# Altium integrated library Analog Devices Data Converters Digital-to-Analog Converters.IntLib: 2231 symbols (part 62 of 181)
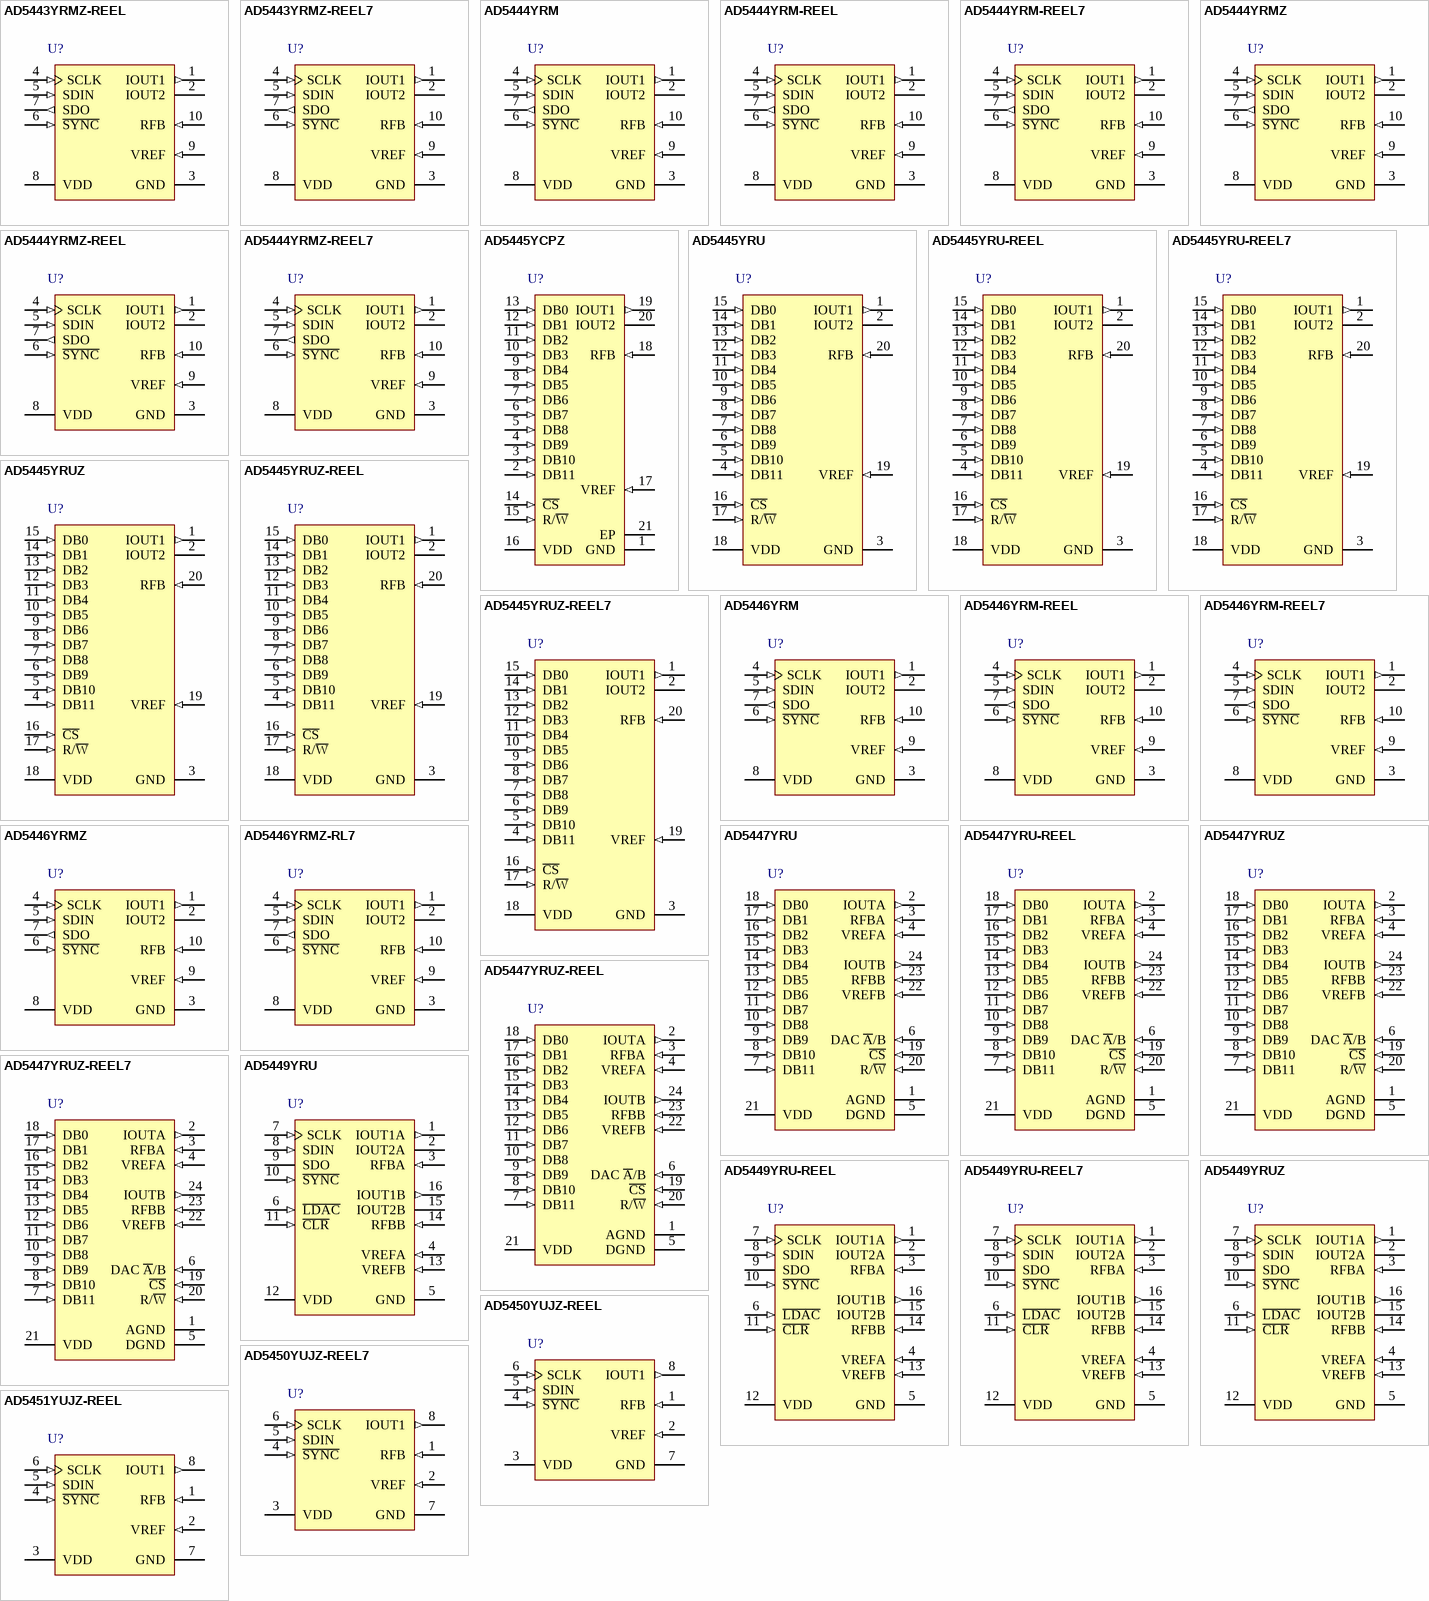
[diagram p175: symbols AD5443YRMZ-REEL to AD5451YUJZ-REEL]

## AD5446YRM
designator U?
Single 14-Bit High Bandwidth Multiplying Digital-to-Analog Converter, -40 to +125 degC, RM-10, Tube; Generic Part Number: AD5446; Manufacturer: Analog Devices; PartNumber: AD5446YRM; # DAC Outputs: 1; Max V+: 5.5V; Resolution (Bits): 14; Settling Time: 80ns; Single Supply: Yes; DatasheetVersion: Rev.D; PackageVersion: May-2005; PackageReference: RM-10; PackageDescription: 10-Lead Mini Small Outline Package [MSOP]; Supplier 1: Digi-Key; Supplier Part Number 1: AD5446YRM-ND; Supplier 2: Mouser; Supplier Part Number 2: 584-AD5446YRM; Packing: Tube; RoHS: N; Mounting Technology: Surface Mount; ComponentLink1Description: Manufacturer URL; ComponentLink1URL: http://www.analog.com/en/index.html; ComponentLink2Description: Datasheet; ComponentLink2URL: http://www.analog.com/static/imported-files/data_sheets/AD5444_5446.pdf; ComponentLink3Description: Package Specification; ComponentLink3URL: http://www.analog.com/static/imported-files/packages/PKG_PDF/MSOP%28RM%29/RM_10.pdf; ComponentLink4Description: Product URL; ComponentLink4URL: http://www.analog.com/en/digital-to-analog-converters/da-converters/ad5446/products/product.html; ComponentLink5Description: Reference Design URL; ComponentLink5URL: http://www.analog.com/en/digital-to-analog-converters/da-converters/ad5446/products/product.html#prod_cross_sell
footprint RM-10_N (TSSOP, 10-Leads, Body 3x3mm, Pitch 0.5mm, IPC Medium Density)
footprint RM-10_L (TSSOP, 10-Leads, Body 3x3mm, Pitch 0.5mm, IPC High Density)
footprint RM-10_M (TSSOP, 10-Leads, Body 3x3mm, Pitch 0.5mm, IPC Low Density)
pins: 1 IOUT1 (out) "DAC Current Output.", 2 IOUT2 "DAC Analog Ground. This pin should normally be tied to the analog ground of the system.", 3 GND (power) "Ground Pin.", 4 SCLK (in) "Serial Clock Input. By default, data is clocked into the input shift register on the falling edge of the serial clock input. Alternatively, by means of the serial control bits, the device can be configured such that data is (See Datasheet)", 5 SDIN (in) "Serial Data Input. Data is clocked into the 16-bit input register on the active edge of the serial clock input. By default on power-up, data is clocked into the shift register on the falling edge of SCLK. The control bits (See Datasheet)", 6 ~{SYNC} (in) "Active Low Control Input. This is the frame synchronization signal for the input data. When S\Y\N\C\ is taken low, data is loaded to the shift register on the active edge of the following clocks. The output updates on the (See Datasheet)", 7 SDO (out) "Serial Data Output. This pin allows a number of parts to be daisy-chained. By default, data is clocked into the shift register on the falling edge and out via SDO on the rising edge of SCLK. Data is always clocked out on the (See Datasheet)", 8 VDD (power) "Positive Power Supply Input. This part can be operated from a supply of 2.5 V to 5.5 V.", 9 VREF (in) "DAC Reference Voltage Input.", 10 RFB (in) "DAC Feedback Resistor. Establishes voltage output for the DAC by connecting to an external amplifier output."

## AD5446YRM-REEL
designator U?
Single 14-Bit High Bandwidth Multiplying Digital-to-Analog Converter, -40 to +125 degC, RM-10, Reel; Generic Part Number: AD5446; Manufacturer: Analog Devices; PartNumber: AD5446YRM-REEL; # DAC Outputs: 1; Max V+: 5.5V; Resolution (Bits): 14; Settling Time: 80ns; Single Supply: Yes; DatasheetVersion: Rev.D; PackageVersion: May-2005; PackageReference: RM-10; PackageDescription: 10-Lead Mini Small Outline Package [MSOP]; Supplier 1: Digi-Key; Supplier Part Number 1: AD5446YRM-REEL-ND; Supplier 2: Mouser; Supplier Part Number 2: 584-AD5446YRM-R; Packing: Reel; RoHS: N; Mounting Technology: Surface Mount; ComponentLink1Description: Manufacturer URL; ComponentLink1URL: http://www.analog.com/en/index.html; ComponentLink2Description: Datasheet; ComponentLink2URL: http://www.analog.com/static/imported-files/data_sheets/AD5444_5446.pdf; ComponentLink3Description: Package Specification; ComponentLink3URL: http://www.analog.com/static/imported-files/packages/PKG_PDF/MSOP%28RM%29/RM_10.pdf; ComponentLink4Description: Product URL; ComponentLink4URL: http://www.analog.com/en/digital-to-analog-converters/da-converters/ad5446/products/product.html; ComponentLink5Description: Reference Design URL; ComponentLink5URL: http://www.analog.com/en/digital-to-analog-converters/da-converters/ad5446/products/product.html#prod_cross_sell
footprint RM-10_N (TSSOP, 10-Leads, Body 3x3mm, Pitch 0.5mm, IPC Medium Density)
footprint RM-10_L (TSSOP, 10-Leads, Body 3x3mm, Pitch 0.5mm, IPC High Density)
footprint RM-10_M (TSSOP, 10-Leads, Body 3x3mm, Pitch 0.5mm, IPC Low Density)
pins: 1 IOUT1 (out) "DAC Current Output.", 2 IOUT2 "DAC Analog Ground. This pin should normally be tied to the analog ground of the system.", 3 GND (power) "Ground Pin.", 4 SCLK (in) "Serial Clock Input. By default, data is clocked into the input shift register on the falling edge of the serial clock input. Alternatively, by means of the serial control bits, the device can be configured such that data is (See Datasheet)", 5 SDIN (in) "Serial Data Input. Data is clocked into the 16-bit input register on the active edge of the serial clock input. By default on power-up, data is clocked into the shift register on the falling edge of SCLK. The control bits (See Datasheet)", 6 ~{SYNC} (in) "Active Low Control Input. This is the frame synchronization signal for the input data. When S\Y\N\C\ is taken low, data is loaded to the shift register on the active edge of the following clocks. The output updates on the (See Datasheet)", 7 SDO (out) "Serial Data Output. This pin allows a number of parts to be daisy-chained. By default, data is clocked into the shift register on the falling edge and out via SDO on the rising edge of SCLK. Data is always clocked out on the (See Datasheet)", 8 VDD (power) "Positive Power Supply Input. This part can be operated from a supply of 2.5 V to 5.5 V.", 9 VREF (in) "DAC Reference Voltage Input.", 10 RFB (in) "DAC Feedback Resistor. Establishes voltage output for the DAC by connecting to an external amplifier output."

## AD5446YRM-REEL7
designator U?
Single 14-Bit High Bandwidth Multiplying Digital-to-Analog Converter, -40 to +125 degC, RM-10, Reel; Generic Part Number: AD5446; Manufacturer: Analog Devices; PartNumber: AD5446YRM-REEL7; # DAC Outputs: 1; Max V+: 5.5V; Resolution (Bits): 14; Settling Time: 80ns; Single Supply: Yes; DatasheetVersion: Rev.D; PackageVersion: May-2005; PackageReference: RM-10; PackageDescription: 10-Lead Mini Small Outline Package [MSOP]; Supplier 1: Digi-Key; Supplier Part Number 1: AD5446YRM-REEL7-ND; Supplier 2: Mouser; Supplier Part Number 2: 584-AD5446YRM-R7; Packing: Reel; RoHS: N; Mounting Technology: Surface Mount; ComponentLink1Description: Manufacturer URL; ComponentLink1URL: http://www.analog.com/en/index.html; ComponentLink2Description: Datasheet; ComponentLink2URL: http://www.analog.com/static/imported-files/data_sheets/AD5444_5446.pdf; ComponentLink3Description: Package Specification; ComponentLink3URL: http://www.analog.com/static/imported-files/packages/PKG_PDF/MSOP%28RM%29/RM_10.pdf; ComponentLink4Description: Product URL; ComponentLink4URL: http://www.analog.com/en/digital-to-analog-converters/da-converters/ad5446/products/product.html; ComponentLink5Description: Reference Design URL; ComponentLink5URL: http://www.analog.com/en/digital-to-analog-converters/da-converters/ad5446/products/product.html#prod_cross_sell
footprint RM-10_N (TSSOP, 10-Leads, Body 3x3mm, Pitch 0.5mm, IPC Medium Density)
footprint RM-10_L (TSSOP, 10-Leads, Body 3x3mm, Pitch 0.5mm, IPC High Density)
footprint RM-10_M (TSSOP, 10-Leads, Body 3x3mm, Pitch 0.5mm, IPC Low Density)
pins: 1 IOUT1 (out) "DAC Current Output.", 2 IOUT2 "DAC Analog Ground. This pin should normally be tied to the analog ground of the system.", 3 GND (power) "Ground Pin.", 4 SCLK (in) "Serial Clock Input. By default, data is clocked into the input shift register on the falling edge of the serial clock input. Alternatively, by means of the serial control bits, the device can be configured such that data is (See Datasheet)", 5 SDIN (in) "Serial Data Input. Data is clocked into the 16-bit input register on the active edge of the serial clock input. By default on power-up, data is clocked into the shift register on the falling edge of SCLK. The control bits (See Datasheet)", 6 ~{SYNC} (in) "Active Low Control Input. This is the frame synchronization signal for the input data. When S\Y\N\C\ is taken low, data is loaded to the shift register on the active edge of the following clocks. The output updates on the (See Datasheet)", 7 SDO (out) "Serial Data Output. This pin allows a number of parts to be daisy-chained. By default, data is clocked into the shift register on the falling edge and out via SDO on the rising edge of SCLK. Data is always clocked out on the (See Datasheet)", 8 VDD (power) "Positive Power Supply Input. This part can be operated from a supply of 2.5 V to 5.5 V.", 9 VREF (in) "DAC Reference Voltage Input.", 10 RFB (in) "DAC Feedback Resistor. Establishes voltage output for the DAC by connecting to an external amplifier output."

## AD5446YRMZ
designator U?
Single 14-Bit High Bandwidth Multiplying Digital-to-Analog Converter, -40 to +125 degC, RM-10, Pb-Free, Tube; Generic Part Number: AD5446; Manufacturer: Analog Devices; PartNumber: AD5446YRMZ; # DAC Outputs: 1; Max V+: 5.5V; Resolution (Bits): 14; Settling Time: 80ns; Single Supply: Yes; DatasheetVersion: Rev.D; PackageVersion: May-2005; PackageReference: RM-10; PackageDescription: 10-Lead Mini Small Outline Package [MSOP]; Supplier 1: Digi-Key; Supplier Part Number 1: AD5446YRMZ-ND; Supplier 2: Farnell; Supplier Part Number 2: 1274275; Supplier 3: Newark; Supplier Part Number 3: 19M0819; Supplier 4: Mouser; Supplier Part Number 4: 584-AD5446YRMZ; Packing: Tube; RoHS: Y; Mounting Technology: Surface Mount; ComponentLink1Description: Manufacturer URL; ComponentLink1URL: http://www.analog.com/en/index.html; ComponentLink2Description: Datasheet; ComponentLink2URL: http://www.analog.com/static/imported-files/data_sheets/AD5444_5446.pdf; ComponentLink3Description: Package Specification; ComponentLink3URL: http://www.analog.com/static/imported-files/packages/PKG_PDF/MSOP%28RM%29/RM_10.pdf; ComponentLink4Description: Product URL; ComponentLink4URL: http://www.analog.com/en/digital-to-analog-converters/da-converters/ad5446/products/product.html; ComponentLink5Description: Reference Design URL; ComponentLink5URL: http://www.analog.com/en/digital-to-analog-converters/da-converters/ad5446/products/product.html#prod_cross_sell
footprint RM-10_N (TSSOP, 10-Leads, Body 3x3mm, Pitch 0.5mm, IPC Medium Density)
footprint RM-10_L (TSSOP, 10-Leads, Body 3x3mm, Pitch 0.5mm, IPC High Density)
footprint RM-10_M (TSSOP, 10-Leads, Body 3x3mm, Pitch 0.5mm, IPC Low Density)
pins: 1 IOUT1 (out) "DAC Current Output.", 2 IOUT2 "DAC Analog Ground. This pin should normally be tied to the analog ground of the system.", 3 GND (power) "Ground Pin.", 4 SCLK (in) "Serial Clock Input. By default, data is clocked into the input shift register on the falling edge of the serial clock input. Alternatively, by means of the serial control bits, the device can be configured such that data is (See Datasheet)", 5 SDIN (in) "Serial Data Input. Data is clocked into the 16-bit input register on the active edge of the serial clock input. By default on power-up, data is clocked into the shift register on the falling edge of SCLK. The control bits (See Datasheet)", 6 ~{SYNC} (in) "Active Low Control Input. This is the frame synchronization signal for the input data. When S\Y\N\C\ is taken low, data is loaded to the shift register on the active edge of the following clocks. The output updates on the (See Datasheet)", 7 SDO (out) "Serial Data Output. This pin allows a number of parts to be daisy-chained. By default, data is clocked into the shift register on the falling edge and out via SDO on the rising edge of SCLK. Data is always clocked out on the (See Datasheet)", 8 VDD (power) "Positive Power Supply Input. This part can be operated from a supply of 2.5 V to 5.5 V.", 9 VREF (in) "DAC Reference Voltage Input.", 10 RFB (in) "DAC Feedback Resistor. Establishes voltage output for the DAC by connecting to an external amplifier output."

## AD5446YRMZ-RL7
designator U?
Single 14-Bit High Bandwidth Multiplying Digital-to-Analog Converter, -40 to +125 degC, RM-10, Pb-Free, Reel; Generic Part Number: AD5446; Manufacturer: Analog Devices; PartNumber: AD5446YRMZ-RL7; # DAC Outputs: 1; Max V+: 5.5V; Resolution (Bits): 14; Settling Time: 80ns; Single Supply: Yes; DatasheetVersion: Rev.D; PackageVersion: May-2005; PackageReference: RM-10; PackageDescription: 10-Lead Mini Small Outline Package [MSOP]; Supplier 1: Digi-Key; Supplier Part Number 1: AD5446YRMZ-RL7-ND; Supplier 2: Mouser; Supplier Part Number 2: 584-AD5446YRMZ-R7; Packing: Reel; RoHS: Y; Mounting Technology: Surface Mount; ComponentLink1Description: Manufacturer URL; ComponentLink1URL: http://www.analog.com/en/index.html; ComponentLink2Description: Datasheet; ComponentLink2URL: http://www.analog.com/static/imported-files/data_sheets/AD5444_5446.pdf; ComponentLink3Description: Package Specification; ComponentLink3URL: http://www.analog.com/static/imported-files/packages/PKG_PDF/MSOP%28RM%29/RM_10.pdf; ComponentLink4Description: Product URL; ComponentLink4URL: http://www.analog.com/en/digital-to-analog-converters/da-converters/ad5446/products/product.html; ComponentLink5Description: Reference Design URL; ComponentLink5URL: http://www.analog.com/en/digital-to-analog-converters/da-converters/ad5446/products/product.html#prod_cross_sell
footprint RM-10_N (TSSOP, 10-Leads, Body 3x3mm, Pitch 0.5mm, IPC Medium Density)
footprint RM-10_L (TSSOP, 10-Leads, Body 3x3mm, Pitch 0.5mm, IPC High Density)
footprint RM-10_M (TSSOP, 10-Leads, Body 3x3mm, Pitch 0.5mm, IPC Low Density)
pins: 1 IOUT1 (out) "DAC Current Output.", 2 IOUT2 "DAC Analog Ground. This pin should normally be tied to the analog ground of the system.", 3 GND (power) "Ground Pin.", 4 SCLK (in) "Serial Clock Input. By default, data is clocked into the input shift register on the falling edge of the serial clock input. Alternatively, by means of the serial control bits, the device can be configured such that data is (See Datasheet)", 5 SDIN (in) "Serial Data Input. Data is clocked into the 16-bit input register on the active edge of the serial clock input. By default on power-up, data is clocked into the shift register on the falling edge of SCLK. The control bits (See Datasheet)", 6 ~{SYNC} (in) "Active Low Control Input. This is the frame synchronization signal for the input data. When S\Y\N\C\ is taken low, data is loaded to the shift register on the active edge of the following clocks. The output updates on the (See Datasheet)", 7 SDO (out) "Serial Data Output. This pin allows a number of parts to be daisy-chained. By default, data is clocked into the shift register on the falling edge and out via SDO on the rising edge of SCLK. Data is always clocked out on the (See Datasheet)", 8 VDD (power) "Positive Power Supply Input. This part can be operated from a supply of 2.5 V to 5.5 V.", 9 VREF (in) "DAC Reference Voltage Input.", 10 RFB (in) "DAC Feedback Resistor. Establishes voltage output for the DAC by connecting to an external amplifier output."

## AD5447YRU
designator U?
Dual 12-Bit High Bandwidth Multiplying Digital-to-Analog Converter, RU-24, Tube; Generic Part Number: AD5447; Manufacturer: Analog Devices; PartNumber: AD5447YRU; # DAC Outputs: 2; Max V+: 5.5V; Op Pwr Diss: 3.3µW; Resolution (Bits): 12; Settling Time: 80ns; Single Supply: Yes; DatasheetVersion: Rev.C; PackageVersion: 2002; PackageReference: RU-24; PackageDescription: 24-Lead Thin Shrink Small Outline Package [TSSOP]; Supplier 1: Digi-Key; Supplier Part Number 1: AD5447YRU-ND; Supplier 2: Mouser; Supplier Part Number 2: 584-AD5447YRU; Packing: Tube; RoHS: N; Mounting Technology: Surface Mount; Code_JEDEC: MO-153-AD; ComponentLink1Description: Manufacturer URL; ComponentLink1URL: http://www.analog.com/en/index.html; ComponentLink2Description: Datasheet; ComponentLink2URL: http://www.analog.com/static/imported-files/data_sheets/AD5428_5440_5447.pdf; ComponentLink3Description: Package Specification; ComponentLink3URL: http://www.analog.com/static/imported-files/packages/380523655245964505593671154107510036154RU24.pdf; ComponentLink4Description: Product URL; ComponentLink4URL: http://www.analog.com/en/digital-to-analog-converters/da-converters/ad5447/products/product.html
footprint RU-24_N (TSOP, 24-Leads, Body 7.8x4.4mm, Pitch 0.65mm, IPC Medium Density)
footprint RU-24_L (TSOP, 24-Leads, Body 7.8x4.4mm, Pitch 0.65mm, IPC High Density)
footprint RU-24_M (TSOP, 24-Leads, Body 7.8x4.4mm, Pitch 0.65mm, IPC Low Density)
pins: 1 AGND (power) "DAC Ground Pin. This pin should typically be tied to the analog ground of the system, but can be biased to achieve single-supply operation.", 2 IOUTA (out) "DAC Current Output", 3 RFBA (in) "DAC Feedback Resistor Pins. Establish voltage output for the DAC by connecting to an external amplifier output.", 4 VREFA (in) "DAC Reference Voltage Input Terminal", 5 DGND (power) "Digital Ground Pin.", 6 DAC ~{A}/B (in) "Selects DAC A or DAC B. Low selects DAC A; high selects DAC B.", 7 DB11 (in) "Parallel Data Bit", 8 DB10 (in) "Parallel Data Bit", 9 DB9 (in) "Parallel Data Bit", 10 DB8 (in) "Parallel Data Bit", 11 DB7 (in) "Parallel Data Bit", 12 DB6 (in) "Parallel Data Bit", 13 DB5 (in) "Parallel Data Bit", 14 DB4 (in) "Parallel Data Bit", 15 DB3 (in) "Parallel Data Bit", 16 DB2 (in) "Parallel Data Bit", 17 DB1 (in) "Parallel Data Bit", 18 DB0 (in) "Parallel Data Bit", 19 ~{CS} (in) "Chip Select Input. Active low. Used in conjunction with R/W\ to load parallel data to the input latch or to read data from the DAC register.", 20 R/~{W} (in) "Read/Write. When low, used in conjunction with C\S\ to load parallel data. When high, used in conjunction with C\S\ to read back the contents of the DAC register. When C\S\ and R/W\ are held low, the latches are transparent. (See Datasheet)", 21 VDD (power) "Positive Power Supply Input. This part can be operated from a supply of 2.5 V to 5.5 V.", 22 VREFB (in) "DAC Reference Voltage Input Terminal", 23 RFBB (in) "DAC Feedback Resistor Pins. Establish voltage output for the DAC by connecting to an external amplifier output.", 24 IOUTB (out) "DAC Current Output"

## AD5447YRU-REEL
designator U?
Dual 12-Bit High Bandwidth Multiplying Digital-to-Analog Converter, RU-24, Reel; Generic Part Number: AD5447; Manufacturer: Analog Devices; PartNumber: AD5447YRU-REEL; # DAC Outputs: 2; Max V+: 5.5V; Op Pwr Diss: 3.3µW; Resolution (Bits): 12; Settling Time: 80ns; Single Supply: Yes; DatasheetVersion: Rev.C; PackageVersion: 2002; PackageReference: RU-24; PackageDescription: 24-Lead Thin Shrink Small Outline Package [TSSOP]; Supplier 1: Digi-Key; Supplier Part Number 1: AD5447YRU-REEL-ND; Supplier 2: Newark; Supplier Part Number 2: 59K4164; Supplier 3: Mouser; Supplier Part Number 3: 584-AD5447YRU-R; Packing: Reel; RoHS: N; Mounting Technology: Surface Mount; Code_JEDEC: MO-153-AD; ComponentLink1Description: Manufacturer URL; ComponentLink1URL: http://www.analog.com/en/index.html; ComponentLink2Description: Datasheet; ComponentLink2URL: http://www.analog.com/static/imported-files/data_sheets/AD5428_5440_5447.pdf; ComponentLink3Description: Package Specification; ComponentLink3URL: http://www.analog.com/static/imported-files/packages/380523655245964505593671154107510036154RU24.pdf; ComponentLink4Description: Product URL; ComponentLink4URL: http://www.analog.com/en/digital-to-analog-converters/da-converters/ad5447/products/product.html
footprint RU-24_N (TSOP, 24-Leads, Body 7.8x4.4mm, Pitch 0.65mm, IPC Medium Density)
footprint RU-24_L (TSOP, 24-Leads, Body 7.8x4.4mm, Pitch 0.65mm, IPC High Density)
footprint RU-24_M (TSOP, 24-Leads, Body 7.8x4.4mm, Pitch 0.65mm, IPC Low Density)
pins: 1 AGND (power) "DAC Ground Pin. This pin should typically be tied to the analog ground of the system, but can be biased to achieve single-supply operation.", 2 IOUTA (out) "DAC Current Output", 3 RFBA (in) "DAC Feedback Resistor Pins. Establish voltage output for the DAC by connecting to an external amplifier output.", 4 VREFA (in) "DAC Reference Voltage Input Terminal", 5 DGND (power) "Digital Ground Pin.", 6 DAC ~{A}/B (in) "Selects DAC A or DAC B. Low selects DAC A; high selects DAC B.", 7 DB11 (in) "Parallel Data Bit", 8 DB10 (in) "Parallel Data Bit", 9 DB9 (in) "Parallel Data Bit", 10 DB8 (in) "Parallel Data Bit", 11 DB7 (in) "Parallel Data Bit", 12 DB6 (in) "Parallel Data Bit", 13 DB5 (in) "Parallel Data Bit", 14 DB4 (in) "Parallel Data Bit", 15 DB3 (in) "Parallel Data Bit", 16 DB2 (in) "Parallel Data Bit", 17 DB1 (in) "Parallel Data Bit", 18 DB0 (in) "Parallel Data Bit", 19 ~{CS} (in) "Chip Select Input. Active low. Used in conjunction with R/W\ to load parallel data to the input latch or to read data from the DAC register.", 20 R/~{W} (in) "Read/Write. When low, used in conjunction with C\S\ to load parallel data. When high, used in conjunction with C\S\ to read back the contents of the DAC register. When C\S\ and R/W\ are held low, the latches are transparent. (See Datasheet)", 21 VDD (power) "Positive Power Supply Input. This part can be operated from a supply of 2.5 V to 5.5 V.", 22 VREFB (in) "DAC Reference Voltage Input Terminal", 23 RFBB (in) "DAC Feedback Resistor Pins. Establish voltage output for the DAC by connecting to an external amplifier output.", 24 IOUTB (out) "DAC Current Output"

## AD5447YRUZ
designator U?
Dual 12-Bit High Bandwidth Multiplying Digital-to-Analog Converter, RU-24, Pb-Free, Tube; Generic Part Number: AD5447; Manufacturer: Analog Devices; PartNumber: AD5447YRUZ; # DAC Outputs: 2; Max V+: 5.5V; Op Pwr Diss: 3.3µW; Resolution (Bits): 12; Settling Time: 80ns; Single Supply: Yes; DatasheetVersion: Rev.C; PackageVersion: 2002; PackageReference: RU-24; PackageDescription: 24-Lead Thin Shrink Small Outline Package [TSSOP]; Supplier 1: Digi-Key; Supplier Part Number 1: AD5447YRUZ-ND; Supplier 2: Farnell; Supplier Part Number 2: 1078349; Supplier 3: Newark; Supplier Part Number 3: 59K4166; Supplier 4: Mouser; Supplier Part Number 4: 584-AD5447YRUZ; Packing: Tube; RoHS: Y; Mounting Technology: Surface Mount; Code_JEDEC: MO-153-AD; ComponentLink1Description: Manufacturer URL; ComponentLink1URL: http://www.analog.com/en/index.html; ComponentLink2Description: Datasheet; ComponentLink2URL: http://www.analog.com/static/imported-files/data_sheets/AD5428_5440_5447.pdf; ComponentLink3Description: Package Specification; ComponentLink3URL: http://www.analog.com/static/imported-files/packages/380523655245964505593671154107510036154RU24.pdf; ComponentLink4Description: Product URL; ComponentLink4URL: http://www.analog.com/en/digital-to-analog-converters/da-converters/ad5447/products/product.html
footprint RU-24_N (TSOP, 24-Leads, Body 7.8x4.4mm, Pitch 0.65mm, IPC Medium Density)
footprint RU-24_L (TSOP, 24-Leads, Body 7.8x4.4mm, Pitch 0.65mm, IPC High Density)
footprint RU-24_M (TSOP, 24-Leads, Body 7.8x4.4mm, Pitch 0.65mm, IPC Low Density)
pins: 1 AGND (power) "DAC Ground Pin. This pin should typically be tied to the analog ground of the system, but can be biased to achieve single-supply operation.", 2 IOUTA (out) "DAC Current Output", 3 RFBA (in) "DAC Feedback Resistor Pins. Establish voltage output for the DAC by connecting to an external amplifier output.", 4 VREFA (in) "DAC Reference Voltage Input Terminal", 5 DGND (power) "Digital Ground Pin.", 6 DAC ~{A}/B (in) "Selects DAC A or DAC B. Low selects DAC A; high selects DAC B.", 7 DB11 (in) "Parallel Data Bit", 8 DB10 (in) "Parallel Data Bit", 9 DB9 (in) "Parallel Data Bit", 10 DB8 (in) "Parallel Data Bit", 11 DB7 (in) "Parallel Data Bit", 12 DB6 (in) "Parallel Data Bit", 13 DB5 (in) "Parallel Data Bit", 14 DB4 (in) "Parallel Data Bit", 15 DB3 (in) "Parallel Data Bit", 16 DB2 (in) "Parallel Data Bit", 17 DB1 (in) "Parallel Data Bit", 18 DB0 (in) "Parallel Data Bit", 19 ~{CS} (in) "Chip Select Input. Active low. Used in conjunction with R/W\ to load parallel data to the input latch or to read data from the DAC register.", 20 R/~{W} (in) "Read/Write. When low, used in conjunction with C\S\ to load parallel data. When high, used in conjunction with C\S\ to read back the contents of the DAC register. When C\S\ and R/W\ are held low, the latches are transparent. (See Datasheet)", 21 VDD (power) "Positive Power Supply Input. This part can be operated from a supply of 2.5 V to 5.5 V.", 22 VREFB (in) "DAC Reference Voltage Input Terminal", 23 RFBB (in) "DAC Feedback Resistor Pins. Establish voltage output for the DAC by connecting to an external amplifier output.", 24 IOUTB (out) "DAC Current Output"

## AD5447YRUZ-REEL
designator U?
Dual 12-Bit High Bandwidth Multiplying Digital-to-Analog Converter, RU-24, Pb-Free, Reel; Generic Part Number: AD5447; Manufacturer: Analog Devices; PartNumber: AD5447YRUZ-REEL; # DAC Outputs: 2; Max V+: 5.5V; Op Pwr Diss: 3.3µW; Resolution (Bits): 12; Settling Time: 80ns; Single Supply: Yes; DatasheetVersion: Rev.C; PackageVersion: 2002; PackageReference: RU-24; PackageDescription: 24-Lead Thin Shrink Small Outline Package [TSSOP]; Supplier 1: Digi-Key; Supplier Part Number 1: AD5447YRUZ-REEL-ND; Supplier 2: Mouser; Supplier Part Number 2: 584-AD5447YRUZ-R; Packing: Reel; RoHS: Y; Mounting Technology: Surface Mount; Code_JEDEC: MO-153-AD; ComponentLink1Description: Manufacturer URL; ComponentLink1URL: http://www.analog.com/en/index.html; ComponentLink2Description: Datasheet; ComponentLink2URL: http://www.analog.com/static/imported-files/data_sheets/AD5428_5440_5447.pdf; ComponentLink3Description: Package Specification; ComponentLink3URL: http://www.analog.com/static/imported-files/packages/380523655245964505593671154107510036154RU24.pdf; ComponentLink4Description: Product URL; ComponentLink4URL: http://www.analog.com/en/digital-to-analog-converters/da-converters/ad5447/products/product.html
footprint RU-24_N (TSOP, 24-Leads, Body 7.8x4.4mm, Pitch 0.65mm, IPC Medium Density)
footprint RU-24_L (TSOP, 24-Leads, Body 7.8x4.4mm, Pitch 0.65mm, IPC High Density)
footprint RU-24_M (TSOP, 24-Leads, Body 7.8x4.4mm, Pitch 0.65mm, IPC Low Density)
pins: 1 AGND (power) "DAC Ground Pin. This pin should typically be tied to the analog ground of the system, but can be biased to achieve single-supply operation.", 2 IOUTA (out) "DAC Current Output", 3 RFBA (in) "DAC Feedback Resistor Pins. Establish voltage output for the DAC by connecting to an external amplifier output.", 4 VREFA (in) "DAC Reference Voltage Input Terminal", 5 DGND (power) "Digital Ground Pin.", 6 DAC ~{A}/B (in) "Selects DAC A or DAC B. Low selects DAC A; high selects DAC B.", 7 DB11 (in) "Parallel Data Bit", 8 DB10 (in) "Parallel Data Bit", 9 DB9 (in) "Parallel Data Bit", 10 DB8 (in) "Parallel Data Bit", 11 DB7 (in) "Parallel Data Bit", 12 DB6 (in) "Parallel Data Bit", 13 DB5 (in) "Parallel Data Bit", 14 DB4 (in) "Parallel Data Bit", 15 DB3 (in) "Parallel Data Bit", 16 DB2 (in) "Parallel Data Bit", 17 DB1 (in) "Parallel Data Bit", 18 DB0 (in) "Parallel Data Bit", 19 ~{CS} (in) "Chip Select Input. Active low. Used in conjunction with R/W\ to load parallel data to the input latch or to read data from the DAC register.", 20 R/~{W} (in) "Read/Write. When low, used in conjunction with C\S\ to load parallel data. When high, used in conjunction with C\S\ to read back the contents of the DAC register. When C\S\ and R/W\ are held low, the latches are transparent. (See Datasheet)", 21 VDD (power) "Positive Power Supply Input. This part can be operated from a supply of 2.5 V to 5.5 V.", 22 VREFB (in) "DAC Reference Voltage Input Terminal", 23 RFBB (in) "DAC Feedback Resistor Pins. Establish voltage output for the DAC by connecting to an external amplifier output.", 24 IOUTB (out) "DAC Current Output"

## AD5447YRUZ-REEL7
designator U?
Dual 12-Bit High Bandwidth Multiplying Digital-to-Analog Converter, RU-24, Pb-Free, Reel; Generic Part Number: AD5447; Manufacturer: Analog Devices; PartNumber: AD5447YRUZ-REEL7; # DAC Outputs: 2; Max V+: 5.5V; Op Pwr Diss: 3.3µW; Resolution (Bits): 12; Settling Time: 80ns; Single Supply: Yes; DatasheetVersion: Rev.C; PackageVersion: 2002; PackageReference: RU-24; PackageDescription: 24-Lead Thin Shrink Small Outline Package [TSSOP]; Supplier 1: Digi-Key; Supplier Part Number 1: AD5447YRUZ-REEL7-ND; Supplier 2: Mouser; Supplier Part Number 2: 584-AD5447YRUZ-R7; Packing: Reel; RoHS: Y; Mounting Technology: Surface Mount; Code_JEDEC: MO-153-AD; ComponentLink1Description: Manufacturer URL; ComponentLink1URL: http://www.analog.com/en/index.html; ComponentLink2Description: Datasheet; ComponentLink2URL: http://www.analog.com/static/imported-files/data_sheets/AD5428_5440_5447.pdf; ComponentLink3Description: Package Specification; ComponentLink3URL: http://www.analog.com/static/imported-files/packages/380523655245964505593671154107510036154RU24.pdf; ComponentLink4Description: Product URL; ComponentLink4URL: http://www.analog.com/en/digital-to-analog-converters/da-converters/ad5447/products/product.html
footprint RU-24_N (TSOP, 24-Leads, Body 7.8x4.4mm, Pitch 0.65mm, IPC Medium Density)
footprint RU-24_L (TSOP, 24-Leads, Body 7.8x4.4mm, Pitch 0.65mm, IPC High Density)
footprint RU-24_M (TSOP, 24-Leads, Body 7.8x4.4mm, Pitch 0.65mm, IPC Low Density)
pins: 1 AGND (power) "DAC Ground Pin. This pin should typically be tied to the analog ground of the system, but can be biased to achieve single-supply operation.", 2 IOUTA (out) "DAC Current Output", 3 RFBA (in) "DAC Feedback Resistor Pins. Establish voltage output for the DAC by connecting to an external amplifier output.", 4 VREFA (in) "DAC Reference Voltage Input Terminal", 5 DGND (power) "Digital Ground Pin.", 6 DAC ~{A}/B (in) "Selects DAC A or DAC B. Low selects DAC A; high selects DAC B.", 7 DB11 (in) "Parallel Data Bit", 8 DB10 (in) "Parallel Data Bit", 9 DB9 (in) "Parallel Data Bit", 10 DB8 (in) "Parallel Data Bit", 11 DB7 (in) "Parallel Data Bit", 12 DB6 (in) "Parallel Data Bit", 13 DB5 (in) "Parallel Data Bit", 14 DB4 (in) "Parallel Data Bit", 15 DB3 (in) "Parallel Data Bit", 16 DB2 (in) "Parallel Data Bit", 17 DB1 (in) "Parallel Data Bit", 18 DB0 (in) "Parallel Data Bit", 19 ~{CS} (in) "Chip Select Input. Active low. Used in conjunction with R/W\ to load parallel data to the input latch or to read data from the DAC register.", 20 R/~{W} (in) "Read/Write. When low, used in conjunction with C\S\ to load parallel data. When high, used in conjunction with C\S\ to read back the contents of the DAC register. When C\S\ and R/W\ are held low, the latches are transparent. (See Datasheet)", 21 VDD (power) "Positive Power Supply Input. This part can be operated from a supply of 2.5 V to 5.5 V.", 22 VREFB (in) "DAC Reference Voltage Input Terminal", 23 RFBB (in) "DAC Feedback Resistor Pins. Establish voltage output for the DAC by connecting to an external amplifier output.", 24 IOUTB (out) "DAC Current Output"

## AD5449YRU
designator U?
Dual 12-Bit High Bandwidth Multiplying Digital-to-Analog Converter, -40 to +125 degC, RU-16, Tube; Generic Part Number: AD5449; Manufacturer: Analog Devices; PartNumber: AD5449YRU; # DAC Outputs: 2; Max V+: 5.5V; Op Pwr Diss: 3.5µW; Resolution (Bits): 12; Settling Time: 80ns; Single Supply: Yes; DatasheetVersion: Rev.D; PackageVersion: Nov-2002; PackageReference: RU-16; PackageDescription: 16-Lead Thin Shrink Small Outline Package [TSSOP]; Supplier 1: Digi-Key; Supplier Part Number 1: AD5449YRU-ND; Supplier 2: Mouser; Supplier Part Number 2: 584-AD5449YRU; Packing: Tube; RoHS: N; Mounting Technology: Surface Mount; Code_JEDEC: MO-153-AB; ComponentLink1Description: Manufacturer URL; ComponentLink1URL: http://www.analog.com/en/index.html; ComponentLink2Description: Datasheet; ComponentLink2URL: http://www.analog.com/static/imported-files/data_sheets/AD5429_5439_5449.pdf; ComponentLink3Description: Package Specification; ComponentLink3URL: http://www.analog.com/static/imported-files/packages/36244347913743854010197452789RU16.pdf; ComponentLink4Description: Product URL; ComponentLink4URL: http://www.analog.com/en/digital-to-analog-converters/da-converters/ad5449/products/product.html
footprint RU-16_N (TSOP, 16-Leads, Body 5x4.4mm, Pitch 0.65mm, IPC Medium Density)
footprint RU-16_L (TSOP, 16-Leads, Body 5x4.4mm, Pitch 0.65mm, IPC High Density)
footprint RU-16_M (TSOP, 16-Leads, Body 5x4.4mm, Pitch 0.65mm, IPC Low Density)
pins: 1 IOUT1A (out) "DAC A Current Output.", 2 IOUT2A "DAC A Analog Ground. This pin should typically be tied to the analog ground of the system, but it can be biased to achieve single-supply operation.", 3 RFBA (in) "DAC Feedback Resistor Pin. This pin establishes voltage output for the DAC by connecting to an external amplifier output.", 4 VREFA (in) "DAC A Reference Voltage Input Pin.", 5 GND (power) "Ground Pin.", 6 ~{LDAC} (in) "Load DAC Input. This pin allows asynchronous or synchronous updates to the DAC output. The DAC is asynchronously updated when this signal goes low. Alternatively, if this line is held permanently low, an automatic or (See Datasheet)", 7 SCLK (in) "Serial Clock Input. By default, data is clocked into the input shift register on the falling edge of the serial clock input. Alternatively, by means of the serial control bits, the device can be configured such that data is (See Datasheet)", 8 SDIN (in) "Serial Data Input. Data is clocked into the 16-bit input register on the active edge of the serial clock input. By default, data is clocked at power-on into the shift register on the falling edge of SCLK. The control bits (See Datasheet)", 9 SDO (oc) "Serial Data Output. This pin allows a number of parts to be daisy-chained. By default, data is clocked into the shift register on the falling edge and clocked out via SDO on the rising edge of SCLK. Data is always clocked (See Datasheet)", 10 ~{SYNC} (in) "Active Low Control Input. This pin provides the frame synchronization signal for the input data. When S\Y\N\C\ goes low, it powers on the SCLK and DIN buffers, and the input shift register is enabled. Data is loaded into the (See Datasheet)", 11 ~{CLR} (in) "Active Low Control Input. This pin clears the DAC output, input, and DAC registers. Configuration mode allows the user to enable the hardware C\L\R\ pin as a clear-to-zero scale or midscale, as required.", 12 VDD (power) "Positive Power Supply Input. These parts can be operated from a supply of 2.5 V to 5.5 V.", 13 VREFB (in) "DAC B Reference Voltage Input Pin.", 14 RFBB (in) "DAC B Feedback Resistor Pin. This pin establishes voltage output for the DAC by connecting to an external amplifier output.", 15 IOUT2B "DAC B Analog Ground. This pin typically should be tied to the analog ground of the system, but it can be biased to achieve single-supply operation.", 16 IOUT1B (out) "DAC B Current Output."

## AD5449YRU-REEL
designator U?
Dual 12-Bit High Bandwidth Multiplying Digital-to-Analog Converter, -40 to +125 degC, RU-16, Reel; Generic Part Number: AD5449; Manufacturer: Analog Devices; PartNumber: AD5449YRU-REEL; # DAC Outputs: 2; Max V+: 5.5V; Op Pwr Diss: 3.5µW; Resolution (Bits): 12; Settling Time: 80ns; Single Supply: Yes; DatasheetVersion: Rev.D; PackageVersion: Nov-2002; PackageReference: RU-16; PackageDescription: 16-Lead Thin Shrink Small Outline Package [TSSOP]; Supplier 1: Digi-Key; Supplier Part Number 1: AD5449YRU-REEL-ND; Supplier 2: Mouser; Supplier Part Number 2: 584-AD5449YRU-R; Packing: Reel; RoHS: N; Mounting Technology: Surface Mount; Code_JEDEC: MO-153-AB; ComponentLink1Description: Manufacturer URL; ComponentLink1URL: http://www.analog.com/en/index.html; ComponentLink2Description: Datasheet; ComponentLink2URL: http://www.analog.com/static/imported-files/data_sheets/AD5429_5439_5449.pdf; ComponentLink3Description: Package Specification; ComponentLink3URL: http://www.analog.com/static/imported-files/packages/36244347913743854010197452789RU16.pdf; ComponentLink4Description: Product URL; ComponentLink4URL: http://www.analog.com/en/digital-to-analog-converters/da-converters/ad5449/products/product.html
footprint RU-16_N (TSOP, 16-Leads, Body 5x4.4mm, Pitch 0.65mm, IPC Medium Density)
footprint RU-16_L (TSOP, 16-Leads, Body 5x4.4mm, Pitch 0.65mm, IPC High Density)
footprint RU-16_M (TSOP, 16-Leads, Body 5x4.4mm, Pitch 0.65mm, IPC Low Density)
pins: 1 IOUT1A (out) "DAC A Current Output.", 2 IOUT2A "DAC A Analog Ground. This pin should typically be tied to the analog ground of the system, but it can be biased to achieve single-supply operation.", 3 RFBA (in) "DAC Feedback Resistor Pin. This pin establishes voltage output for the DAC by connecting to an external amplifier output.", 4 VREFA (in) "DAC A Reference Voltage Input Pin.", 5 GND (power) "Ground Pin.", 6 ~{LDAC} (in) "Load DAC Input. This pin allows asynchronous or synchronous updates to the DAC output. The DAC is asynchronously updated when this signal goes low. Alternatively, if this line is held permanently low, an automatic or (See Datasheet)", 7 SCLK (in) "Serial Clock Input. By default, data is clocked into the input shift register on the falling edge of the serial clock input. Alternatively, by means of the serial control bits, the device can be configured such that data is (See Datasheet)", 8 SDIN (in) "Serial Data Input. Data is clocked into the 16-bit input register on the active edge of the serial clock input. By default, data is clocked at power-on into the shift register on the falling edge of SCLK. The control bits (See Datasheet)", 9 SDO (oc) "Serial Data Output. This pin allows a number of parts to be daisy-chained. By default, data is clocked into the shift register on the falling edge and clocked out via SDO on the rising edge of SCLK. Data is always clocked (See Datasheet)", 10 ~{SYNC} (in) "Active Low Control Input. This pin provides the frame synchronization signal for the input data. When S\Y\N\C\ goes low, it powers on the SCLK and DIN buffers, and the input shift register is enabled. Data is loaded into the (See Datasheet)", 11 ~{CLR} (in) "Active Low Control Input. This pin clears the DAC output, input, and DAC registers. Configuration mode allows the user to enable the hardware C\L\R\ pin as a clear-to-zero scale or midscale, as required.", 12 VDD (power) "Positive Power Supply Input. These parts can be operated from a supply of 2.5 V to 5.5 V.", 13 VREFB (in) "DAC B Reference Voltage Input Pin.", 14 RFBB (in) "DAC B Feedback Resistor Pin. This pin establishes voltage output for the DAC by connecting to an external amplifier output.", 15 IOUT2B "DAC B Analog Ground. This pin typically should be tied to the analog ground of the system, but it can be biased to achieve single-supply operation.", 16 IOUT1B (out) "DAC B Current Output."

## AD5449YRU-REEL7
designator U?
Dual 12-Bit High Bandwidth Multiplying Digital-to-Analog Converter, -40 to +125 degC, RU-16, Reel; Generic Part Number: AD5449; Manufacturer: Analog Devices; PartNumber: AD5449YRU-REEL7; # DAC Outputs: 2; Max V+: 5.5V; Op Pwr Diss: 3.5µW; Resolution (Bits): 12; Settling Time: 80ns; Single Supply: Yes; DatasheetVersion: Rev.D; PackageVersion: Nov-2002; PackageReference: RU-16; PackageDescription: 16-Lead Thin Shrink Small Outline Package [TSSOP]; Supplier 1: Digi-Key; Supplier Part Number 1: AD5449YRU-REEL7TR-ND; Supplier 2: Mouser; Supplier Part Number 2: 584-AD5449YRU-R7; Packing: Reel; RoHS: N; Mounting Technology: Surface Mount; Code_JEDEC: MO-153-AB; ComponentLink1Description: Manufacturer URL; ComponentLink1URL: http://www.analog.com/en/index.html; ComponentLink2Description: Datasheet; ComponentLink2URL: http://www.analog.com/static/imported-files/data_sheets/AD5429_5439_5449.pdf; ComponentLink3Description: Package Specification; ComponentLink3URL: http://www.analog.com/static/imported-files/packages/36244347913743854010197452789RU16.pdf; ComponentLink4Description: Product URL; ComponentLink4URL: http://www.analog.com/en/digital-to-analog-converters/da-converters/ad5449/products/product.html
footprint RU-16_N (TSOP, 16-Leads, Body 5x4.4mm, Pitch 0.65mm, IPC Medium Density)
footprint RU-16_L (TSOP, 16-Leads, Body 5x4.4mm, Pitch 0.65mm, IPC High Density)
footprint RU-16_M (TSOP, 16-Leads, Body 5x4.4mm, Pitch 0.65mm, IPC Low Density)
pins: 1 IOUT1A (out) "DAC A Current Output.", 2 IOUT2A "DAC A Analog Ground. This pin should typically be tied to the analog ground of the system, but it can be biased to achieve single-supply operation.", 3 RFBA (in) "DAC Feedback Resistor Pin. This pin establishes voltage output for the DAC by connecting to an external amplifier output.", 4 VREFA (in) "DAC A Reference Voltage Input Pin.", 5 GND (power) "Ground Pin.", 6 ~{LDAC} (in) "Load DAC Input. This pin allows asynchronous or synchronous updates to the DAC output. The DAC is asynchronously updated when this signal goes low. Alternatively, if this line is held permanently low, an automatic or (See Datasheet)", 7 SCLK (in) "Serial Clock Input. By default, data is clocked into the input shift register on the falling edge of the serial clock input. Alternatively, by means of the serial control bits, the device can be configured such that data is (See Datasheet)", 8 SDIN (in) "Serial Data Input. Data is clocked into the 16-bit input register on the active edge of the serial clock input. By default, data is clocked at power-on into the shift register on the falling edge of SCLK. The control bits (See Datasheet)", 9 SDO (oc) "Serial Data Output. This pin allows a number of parts to be daisy-chained. By default, data is clocked into the shift register on the falling edge and clocked out via SDO on the rising edge of SCLK. Data is always clocked (See Datasheet)", 10 ~{SYNC} (in) "Active Low Control Input. This pin provides the frame synchronization signal for the input data. When S\Y\N\C\ goes low, it powers on the SCLK and DIN buffers, and the input shift register is enabled. Data is loaded into the (See Datasheet)", 11 ~{CLR} (in) "Active Low Control Input. This pin clears the DAC output, input, and DAC registers. Configuration mode allows the user to enable the hardware C\L\R\ pin as a clear-to-zero scale or midscale, as required.", 12 VDD (power) "Positive Power Supply Input. These parts can be operated from a supply of 2.5 V to 5.5 V.", 13 VREFB (in) "DAC B Reference Voltage Input Pin.", 14 RFBB (in) "DAC B Feedback Resistor Pin. This pin establishes voltage output for the DAC by connecting to an external amplifier output.", 15 IOUT2B "DAC B Analog Ground. This pin typically should be tied to the analog ground of the system, but it can be biased to achieve single-supply operation.", 16 IOUT1B (out) "DAC B Current Output."

## AD5449YRUZ
designator U?
Dual 12-Bit High Bandwidth Multiplying Digital-to-Analog Converter, -40 to +125 degC, RU-16, Pb-Free, Tube; Generic Part Number: AD5449; Manufacturer: Analog Devices; PartNumber: AD5449YRUZ; # DAC Outputs: 2; Max V+: 5.5V; Op Pwr Diss: 3.5µW; Resolution (Bits): 12; Settling Time: 80ns; Single Supply: Yes; DatasheetVersion: Rev.D; PackageVersion: Nov-2002; PackageReference: RU-16; PackageDescription: 16-Lead Thin Shrink Small Outline Package [TSSOP]; Supplier 1: Digi-Key; Supplier Part Number 1: AD5449YRUZ-ND; Supplier 2: Farnell; Supplier Part Number 2: 1438907; Supplier 3: Newark; Supplier Part Number 3: 12M8536; Supplier 4: Mouser; Supplier Part Number 4: 584-AD5449YRUZ; Packing: Tube; RoHS: Y; Mounting Technology: Surface Mount; Code_JEDEC: MO-153-AB; ComponentLink1Description: Manufacturer URL; ComponentLink1URL: http://www.analog.com/en/index.html; ComponentLink2Description: Datasheet; ComponentLink2URL: http://www.analog.com/static/imported-files/data_sheets/AD5429_5439_5449.pdf; ComponentLink3Description: Package Specification; ComponentLink3URL: http://www.analog.com/static/imported-files/packages/36244347913743854010197452789RU16.pdf; ComponentLink4Description: Product URL; ComponentLink4URL: http://www.analog.com/en/digital-to-analog-converters/da-converters/ad5449/products/product.html
footprint RU-16_N (TSOP, 16-Leads, Body 5x4.4mm, Pitch 0.65mm, IPC Medium Density)
footprint RU-16_L (TSOP, 16-Leads, Body 5x4.4mm, Pitch 0.65mm, IPC High Density)
footprint RU-16_M (TSOP, 16-Leads, Body 5x4.4mm, Pitch 0.65mm, IPC Low Density)
pins: 1 IOUT1A (out) "DAC A Current Output.", 2 IOUT2A "DAC A Analog Ground. This pin should typically be tied to the analog ground of the system, but it can be biased to achieve single-supply operation.", 3 RFBA (in) "DAC Feedback Resistor Pin. This pin establishes voltage output for the DAC by connecting to an external amplifier output.", 4 VREFA (in) "DAC A Reference Voltage Input Pin.", 5 GND (power) "Ground Pin.", 6 ~{LDAC} (in) "Load DAC Input. This pin allows asynchronous or synchronous updates to the DAC output. The DAC is asynchronously updated when this signal goes low. Alternatively, if this line is held permanently low, an automatic or (See Datasheet)", 7 SCLK (in) "Serial Clock Input. By default, data is clocked into the input shift register on the falling edge of the serial clock input. Alternatively, by means of the serial control bits, the device can be configured such that data is (See Datasheet)", 8 SDIN (in) "Serial Data Input. Data is clocked into the 16-bit input register on the active edge of the serial clock input. By default, data is clocked at power-on into the shift register on the falling edge of SCLK. The control bits (See Datasheet)", 9 SDO (oc) "Serial Data Output. This pin allows a number of parts to be daisy-chained. By default, data is clocked into the shift register on the falling edge and clocked out via SDO on the rising edge of SCLK. Data is always clocked (See Datasheet)", 10 ~{SYNC} (in) "Active Low Control Input. This pin provides the frame synchronization signal for the input data. When S\Y\N\C\ goes low, it powers on the SCLK and DIN buffers, and the input shift register is enabled. Data is loaded into the (See Datasheet)", 11 ~{CLR} (in) "Active Low Control Input. This pin clears the DAC output, input, and DAC registers. Configuration mode allows the user to enable the hardware C\L\R\ pin as a clear-to-zero scale or midscale, as required.", 12 VDD (power) "Positive Power Supply Input. These parts can be operated from a supply of 2.5 V to 5.5 V.", 13 VREFB (in) "DAC B Reference Voltage Input Pin.", 14 RFBB (in) "DAC B Feedback Resistor Pin. This pin establishes voltage output for the DAC by connecting to an external amplifier output.", 15 IOUT2B "DAC B Analog Ground. This pin typically should be tied to the analog ground of the system, but it can be biased to achieve single-supply operation.", 16 IOUT1B (out) "DAC B Current Output."

## AD5450YUJZ-REEL
designator U?
Single 8-Bit High Bandwidth Multiplying Digital-to-Analog Converter, -40 to +125 degC, UJ-8, Pb-Free, Reel; Generic Part Number: AD5450; Manufacturer: Analog Devices; PartNumber: AD5450YUJZ-REEL; # DAC Outputs: 1; Max V+: 5.5V; Op Pwr Diss: 55µW; Resolution (Bits): 8; Settling Time: 100ns; Single Supply: Yes; DatasheetVersion: Rev.F; PackageVersion: Dec-2004; PackageReference: UJ-8; PackageDescription: 8-Lead Thin Small Outline Transistor Package [TSOT]; Supplier 1: Digi-Key; Supplier Part Number 1: AD5450YUJZ-REEL-ND; Supplier 2: Newark; Supplier Part Number 2: 59K4176; Supplier 3: Mouser; Supplier Part Number 3: 584-AD5450YUJZ-R; Packing: Reel; RoHS: Y; Mounting Technology: Surface Mount; Code_JEDEC: MO-193-BA*; ComponentLink1Description: Manufacturer URL; ComponentLink1URL: http://www.analog.com/en/index.html; ComponentLink2Description: Datasheet; ComponentLink2URL: http://www.analog.com/static/imported-files/data_sheets/AD5450_5451_5452_5453.pdf; ComponentLink3Description: Package Specification; ComponentLink3URL: http://www.analog.com/static/imported-files/packages/PKG_PDF/TSOT(UJ)/UJ_8.pdf; ComponentLink4Description: Product URL; ComponentLink4URL: http://www.analog.com/en/digital-to-analog-converters/da-converters/ad5450/products/product.html; ComponentLink5Description: Reference Design URL; ComponentLink5URL: http://www.analog.com/en/digital-to-analog-converters/da-converters/ad5450/products/product.html#prod_cross_sell
footprint UJ-8_N (SOP, 8-Leads, Body 2.9x1.6mm, Pitch 0.65mm, IPC Medium Density)
footprint UJ-8_L (SOP, 8-Leads, Body 2.9x1.6mm, Pitch 0.65mm, IPC High Density)
footprint UJ-8_M (SOP, 8-Leads, Body 2.9x1.6mm, Pitch 0.65mm, IPC Low Density)
pins: 1 RFB (in) "DAC Feedback Resistor. Establish voltage output for the DAC by connecting to external amplifier output.", 2 VREF (in) "DAC Reference Voltage Input.", 3 VDD (power) "Positive Power Supply Input. These parts can operate from a supply of 2.5 V to 5.5 V.", 4 ~{SYNC} (in) "Active Low Control Input. This is the frame synchronization signal for the input data. Data is loaded to the shift register upon the active edge of the following clocks.", 5 SDIN (in) "Serial Data Input. Data is clocked into the 16-bit input register upon the active edge of the serial clock input. By default, in power-up mode data is clocked into the shift register upon the falling edge of SCLK. The (See Datasheet)", 6 SCLK (in) "Serial Clock Input. By default, data is clocked into the input shift register upon the falling edge of the serial clock input. Alternatively, by means of the serial control bits, the device can be configured such that data (See Datasheet)", 7 GND (power) "Ground Pin.", 8 IOUT1 (out) "DAC Current Output."